# EAGLE library part CECL2009 (library IC & Transistor)
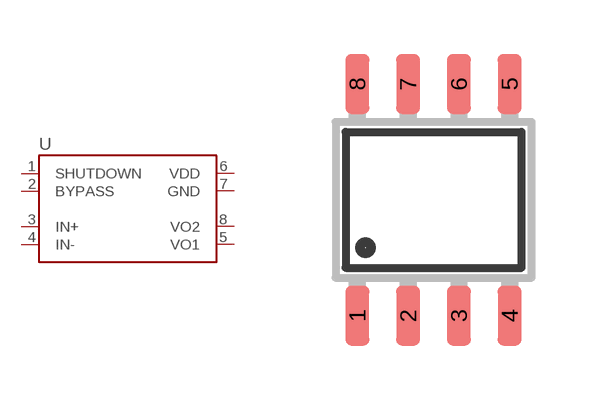
[diagram p19: symbol with the pads of SOIC-08N; footprint SOIC-08N]

Designator prefix U

## CECL2009 (CYTRON-PC: S-IC-CECL2009-SO8; DESC: S Audio Amp CECL2009 SO8; MF: CHIPKINGDOM; MPN: CECL2009)  [SOIC-08N]
1  SHUTDOWN
2  BYPASS
3  IN+
4  IN-
5  VO1
6  VDD
7  GND
8  VO2

## Footprint SOIC-08N (pad centres in mm)
Small Outline Integrated Circuit (SOIC) Narrow (JEDEC) SOIC Package Size: 4.9mm x 3.9mm Lead Pitch: 1.27mm
smd 0.6 x 1.5: 1 -1.905,-2.9; 2 -0.635,-2.9; 3 0.635,-2.9; 4 1.905,-2.9; 5 1.905,2.9; 6 0.635,2.9; 7 -0.635,2.9; 8 -1.905,2.9